# Altium integrated library AMS_Air_Quality_Sensors.IntLib: 1 symbol
Pins are listed as number, name and electrical type; pins without a type are passive.

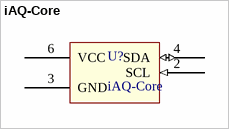
[diagram p0: symbol iAQ-Core]

## iAQ-Core
designator U?
Indoor Air Quality Sensor Module; ComponentLink1Description: Link1DataSheetURL; ComponentLink1URL: https://www.mouser.com/ds/2/588/iAQ-core_Datasheet_EN_v1-775852.pdf
footprint iAQ_Core_ModuleStandard (Recommended Footprint (standard))
pins: 1 NC hidden "Not connected", 2 SCL (in) "I²C serial clock", 3 GND (power) "Ground", 4 SDA (io) "I²C serial data", 5 NC hidden "Not connected", 6 VCC (power) "+3.3V"